# EAGLE library part SAMACSYS_PARTS_RQ3E120ATTB (library ExportCompute Module)
RQ3E100ATTB P-Channel MOSFET, 31 A, 30 V RQ3E100AT, 8-Pin HSMT ROHM Source: Datasheet <https://d1d2qsbl8m0m72.cloudfront.net/en/products/databook/datasheet/discrete/transistor/mosfet/rq3e100attb-e.pdf>
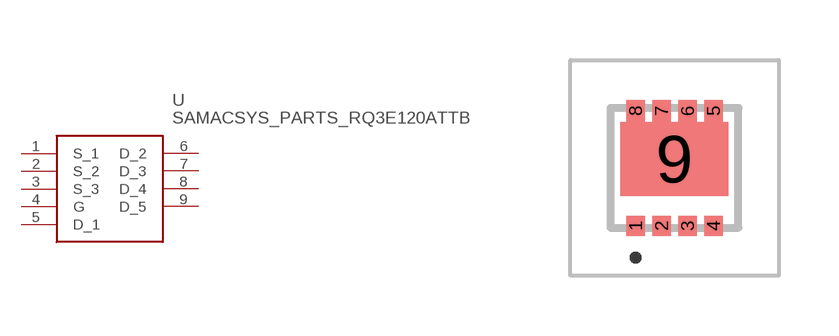
[diagram p19: symbol with the pads of SAMACSYS_PARTS_RQ3E100ATTB; footprint SAMACSYS_PARTS_RQ3E100ATTB]

Designator prefix U

## SAMACSYS_PARTS_RQ3E120ATTB (DIGIKEY: RQ3E120ATTBCT-ND; MANUFACTURER: ROHM Semiconductor; MOUSER: 755-RQ3E100ATTB; MPN: RQ3E100ATTB)  [SAMACSYS_PARTS_RQ3E100ATTB]
1  S_1
2  S_2
3  S_3
4  G
5  D_1
6  D_2
7  D_3
8  D_4
9  D_5

## Footprint SAMACSYS_PARTS_RQ3E100ATTB (pad centres in mm)
RQ3E100ATTB-3
smd 0.47 x 0.5: 1 -0.975,-1.45; 2 -0.325,-1.45; 3 0.325,-1.45; 4 0.975,-1.45
smd 0.47 x 0.55: 5 0.975,1.425; 6 0.325,1.425; 7 -0.325,1.425; 8 -0.975,1.425
smd 2.7 x 1.85: 9 0,0.225